# EAGLE library part ATSAMD21E (library hack)
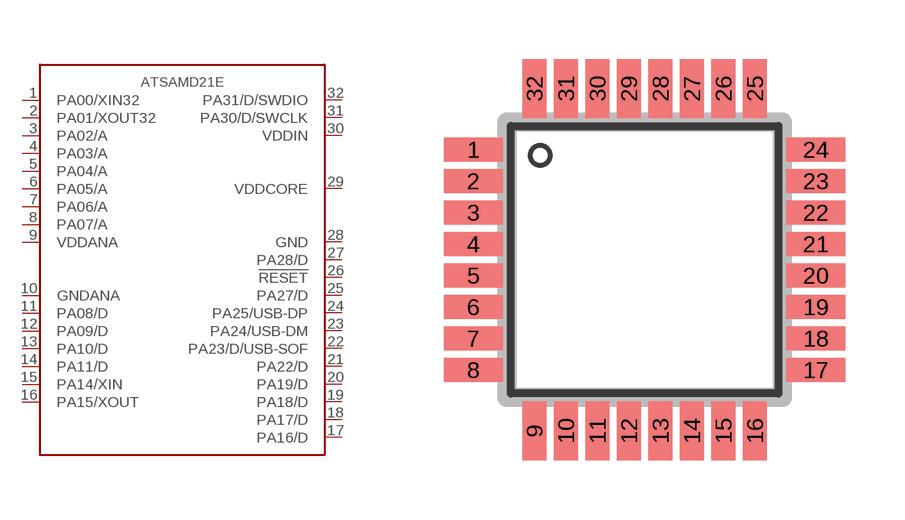
[diagram p7: symbol with the pads of TQFP32; footprint TQFP32]

Designator prefix -

## ATSAMD21E  [TQFP32]
1  PA00/XIN32
2  PA01/XOUT32
3  PA02/A
4  PA03/A
5  PA04/A
6  PA05/A
7  PA06/A
8  PA07/A
9  VDDANA  pwr
10  GNDANA  sup
11  PA08/D
12  PA09/D
13  PA10/D
14  PA11/D
15  PA14/XIN
16  PA15/XOUT
17  PA16/D
18  PA17/D
19  PA18/D
20  PA19/D
21  PA22/D
22  PA23/D/USB-SOF
23  PA24/USB-DM
24  PA25/USB-DP
25  PA27/D
26  !RESET
27  PA28/D
28  GND
29  VDDCORE
30  VDDIN
31  PA30/D/SWCLK
32  PA31/D/SWDIO

## Footprint TQFP32 (pad centres in mm)
smd 1.5 x 0.6: 1 -4.35,2.8; 2 -4.35,2; 3 -4.35,1.2; 4 -4.35,0.4; 5 -4.35,-0.4; 6 -4.35,-1.2; 7 -4.35,-2; 8 -4.35,-2.8; 17 4.35,-2.8; 18 4.35,-2; 19 4.35,-1.2; 20 4.35,-0.4; 21 4.35,0.4; 22 4.35,1.2; 23 4.35,2; 24 4.35,2.8
smd 0.6 x 1.5: 9 -2.8,-4.35; 10 -2,-4.35; 11 -1.2,-4.35; 12 -0.4,-4.35; 13 0.4,-4.35; 14 1.2,-4.35; 15 2,-4.35; 16 2.8,-4.35; 25 2.8,4.35; 26 2,4.35; 27 1.2,4.35; 28 0.4,4.35; 29 -0.4,4.35; 30 -1.2,4.35; 31 -2,4.35; 32 -2.8,4.35